# Altium schematic symbol library Diode_LED_1.Schlib: 1 symbol
Pins are listed as number, name and electrical type; pins without a type are passive.

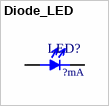
[diagram p0: symbol Diode_LED]

## Diode_LED
designator LED?  Rated Current: ?mA
footprint LED_SAMSUNG
footprint LED_CREE
pins: 1, 2